# Altium footprint library SignalCommunications.PCBLIB: 466 footprints (part 18 of 30)
Each footprint in its own frame and in the unit in brackets; x right, y up, seen from the top. Pads: shape width x height; smd on the part's side, far side on the other; paste and mask are expansions set on the pad; w line width, h text height; cw(c..) or ccw(c..) is an arc to the next point about the centre after c.
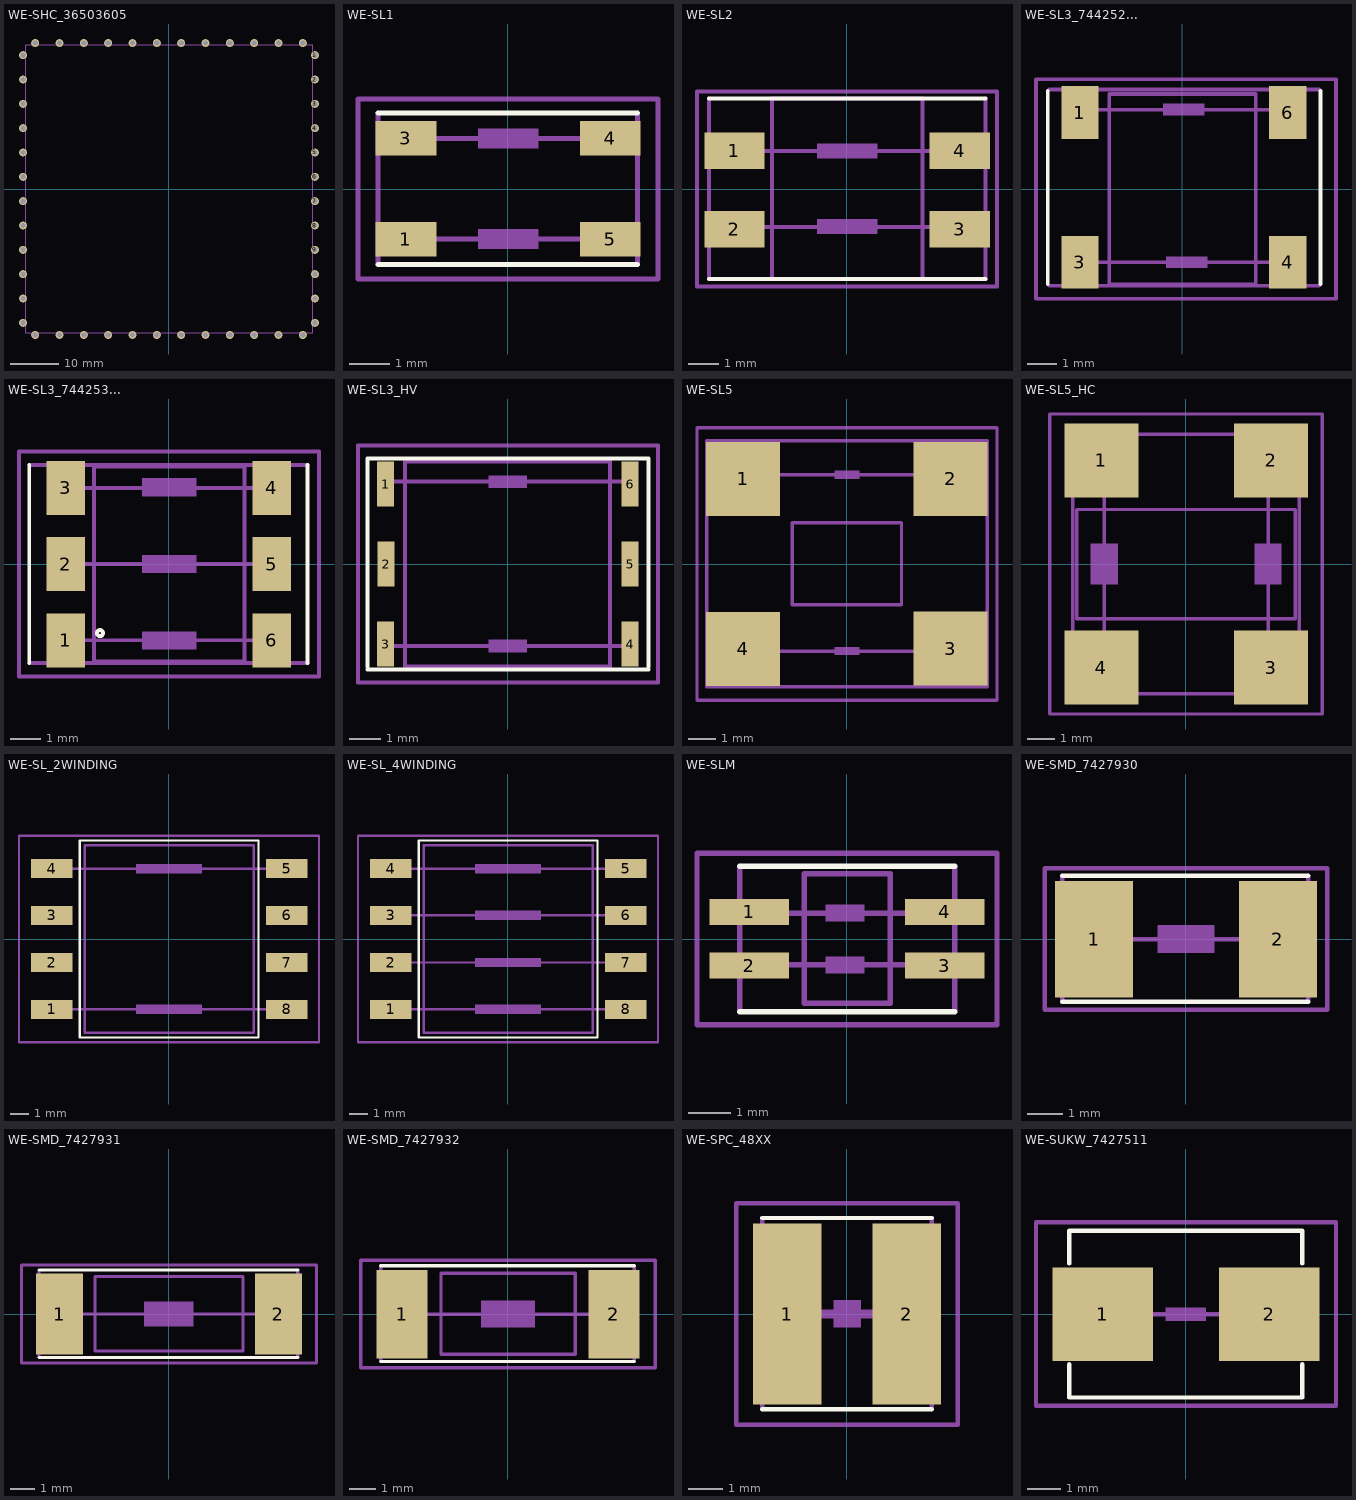
[diagram p17: the footprints below, top view; thin cyan lines are the x and y axes]

## WE-SHC_36503605 [mil]
pads (48):
  round 66 hole 44: 1(1201,1101) 2(1201,901) 3(1201,701) 4(1201,501) 5(1201,301) 6(1201,101) 7(1201,-99.21) 8(1201,-299.21) 9(1201,-499.21) 10(1201,-699.21) 11(1201,-899.21) 12(1201,-1099.21) 13(1101,-1199.21) 14(901,-1199.21) 15(701,-1199.21) 16(501,-1199.21) 17(301,-1199.21) 18(101,-1199.21) 19(-99.21,-1199.21) 20(-299.21,-1199.21) 21(-499.21,-1199.21) 22(-699.21,-1199.21) 23(-899.21,-1199.21) 24(-1099.21,-1199.21) 25(-1199.21,-1099.21) 26(-1199.21,-899.21) 27(-1199.21,-699.21) 28(-1199.21,-499.21) 29(-1199.21,-299.21) 30(-1199.21,-99.21) 31(-1199.21,101) 32(-1199.21,301) 33(-1199.21,501) 34(-1199.21,701) 35(-1199.21,901) 36(-1199.21,1101) 37(-1099.21,1201) 38(-899.21,1201) 39(-699.21,1201) 40(-499.21,1201) 41(-299.21,1201) 42(-99.21,1201) 43(101,1201) 44(301,1201) 45(501,1201) 46(701,1201) 47(901,1201) 48(1101,1201)
Mechanical 16:
  lines w5: -1181.1,-1181.1 -1181.1,1182 1182,1182 1182,-1181.1 -1181.1,-1181.1

## WE-SL1 [mil]
pads (4):
  rect 60x34 smd: 1(-100.39,-49.21) 3(-100.39,50) 4(101,50) 5(101,-49.21)
Top Overlay:
  lines w5: -127.95,-74.02 128,-74.02 ; -127.95,75 128,75
Mechanical 16:
  rectangle: -29.53,40 30,60
  rectangle: -29.53,-59.06 30,-39.37
  lines w5: -127.95,-74.02 -127.95,75 ; -100.39,-49.21 101,-49.21 ; -100.39,50 101,50 ; 128,-74.02 128,75
Mechanical 27:
  lines w5: -147.64,-88.58 148,-88.58 148,89 -147.64,89 -147.64,-88.58

## WE-SL2 [mil]
pads (4):
  rect 79x48 smd: 1(-147.64,50) 2(-147.64,-52.76) 3(148,-52.76) 4(148,50)
Top Overlay:
  lines w5: -181.1,-118.11 182,-118.11 ; -181.1,119 182,119
Mechanical 10:
  lines w5: -98.43,-118.11 -98.43,119 99,119 99,-118.11 -98.43,-118.11
Mechanical 16:
  region: 40,60 -39.37,60 -39.37,40 40,40
  region: 40,-39.37 -39.37,-39.37 -39.37,-59.06 40,-59.06
  lines w5: -181.1,-118.11 -181.1,119 ; -150,-50 150,-50 ; -150,50 150,50 ; 182,-118.11 182,119
Mechanical 27:
  lines w5: -196.85,-127.95 197,-127.95 197,128 -196.85,128 -196.85,-127.95

## WE-SL3_744252... [mil]
pads (4):
  rect 50x71 smd: 1(-137.8,103) 3(-137.8,-98.43) 4(142,-98.43) 6(142,103)
Top Overlay:
  lines w5: -181.1,-127.95 -181.1,132 ; 186,-127.95 186,132
Mechanical 10:
  lines w5: -98.43,-127.95 99,-127.95 99,128 -98.43,128 -98.43,-127.95
Mechanical 16:
  rectangle: -25.59,99 30,115
  rectangle: -21.65,-106.3 34,-90.55
  lines w5: -179.13,-129.92 184,-129.92 ; -179.13,134 184,134 ; -141.73,107 142,107 ; -137.8,-98.43 146,-98.43
Mechanical 27:
  lines w5: -196.85,-147.64 207,-147.64 207,148 -196.85,148 -196.85,-147.64

## WE-SL3_744253... [mil]
pads (6):
  rect 50x71 smd: 1(-135.43,-100) 2(-135.43,0) 3(-135.43,100) 4(135,100) 5(135,0) 6(135,-100)
Top Overlay:
  circle w5: c-90.55,-90.55 r4
  lines w5: -183.46,-129.92 -183.46,130 ; 182,-129.92 182,130
Mechanical 10:
  lines w5: -98.43,-127.95 99,-127.95 99,128 -98.43,128 -98.43,-127.95
Mechanical 16:
  rectangle: -35.43,-11.81 36,12
  rectangle: -35.43,-112.2 36,-88.58
  rectangle: -35.43,89 36,113
  lines w5: -183.46,-129.92 182,-129.92 ; -183.46,130 182,130 ; -135.83,-100 136,-100 ; -135.83,0 136,0 ; -135.43,100 136,100
Mechanical 27:
  lines w5: -196.85,-147.64 197,-147.64 197,148 -196.85,148 -196.85,-147.64

## WE-SL3_HV [mil]
pads (6):
  rect 21x56 smd: 1(-152.56,100) 2(-151.85,0) 3(-152.56,-100) 4(153,-100) 5(153,0) 6(153,100)
Top Overlay:
  lines w5: -175.2,-131.89 176,-131.89 ; -175.2,-127.95 -175.2,130 ; -175.2,132 176,132 ; 176,-127.95 176,130
Mechanical 10:
  lines w5: -127.95,-127.95 128,-127.95 128,128 -127.95,128 -127.95,-127.95
Mechanical 16:
  rectangle: -23.62,-110.24 24,-94.49
  rectangle: -23.62,95 24,111
  lines w5: -149.61,-102.36 -23.62,-102.36 ; -149.61,103 -23.62,103 ; 24,-102.36 150,-102.36 ; 24,103 150,103
Mechanical 27:
  lines w5: -187.01,-147.64 188,-147.64 188,148 -187.01,148 -187.01,-147.64

## WE-SL5 [mil]
pads (4):
  rect 107x107 smd: 1(-150,123) 2(150,123) 3(150,-122.05) 4(-150,-122.44)
Mechanical 10:
  lines w5: -78.74,-59.06 79,-59.06 79,60 -78.74,60 -78.74,-59.06
Mechanical 16:
  rectangle: -17.72,123 18,135
  rectangle: -17.72,-131.5 18,-119.68
  lines w5: -153.15,-125.98 146,-125.98 ; -144.49,129 160,129 ; -202.76,-177.17 -202.76,178 203,178 203,-177.17 -202.76,-177.17
Mechanical 27:
  lines w5: -216.54,-196.85 217,-196.85 217,197 -216.54,197 -216.54,-196.85

## WE-SL5_HC [mil]
pads (4):
  rect 107x107 smd: 1(-122.05,150) 2(123,150) 3(123,-149.61) 4(-122.05,-149.61)
Mechanical 10:
  lines w5: -157.48,-78.74 158,-78.74 158,79 -157.48,79 -157.48,-78.74
Mechanical 16:
  rectangle: -137.8,-29.53 -98.43,30
  rectangle: 99,-29.53 138,30
  lines w5: -118.11,-137.8 -118.11,138 ; 119,-137.8 119,138 ; -163.39,-187.01 164,-187.01 164,188 -163.39,188 -163.39,-187.01
Mechanical 27:
  lines w5: -196.85,-216.54 197,-216.54 197,217 -196.85,217 -196.85,-216.54

## WE-SL_2WINDING [mil]
pads (8):
  rect 87x40 smd: 1(-246.06,-147.64) 2(-246.06,-49.21) 3(-246.06,50) 4(-246.06,148) 5(247,148) 6(247,50) 7(247,-49.21) 8(247,-147.64)
Top Overlay:
  lines w5: -187.01,-206.69 188,-206.69 188,207 -187.01,207 -187.01,-206.69
Mechanical 10:
  lines w5: -177.17,-196.85 178,-196.85 178,197 -177.17,197 -177.17,-196.85
Mechanical 16:
  region: 69,-137.79 -68.9,-137.79 -68.9,-157.48 69,-157.48
  region: 69,158 -68.9,158 -68.9,138 69,138
  lines w5: -246.06,-147.64 247,-147.64 ; -246.06,148 247,148
Mechanical 27:
  lines w5: -314.96,-216.54 315,-216.54 315,217 -314.96,217 -314.96,-216.54

## WE-SL_4WINDING [mil]
pads (8):
  rect 87x40 smd: 1(-246.06,-147.64) 2(-246.06,-49.21) 3(-246.06,50) 4(-246.06,148) 5(247,148) 6(247,50) 7(247,-49.21) 8(247,-147.64)
Top Overlay:
  lines w5: -187.01,-206.69 188,-206.69 188,207 -187.01,207 -187.01,-206.69
Mechanical 10:
  lines w5: -177.17,-196.85 178,-196.85 178,197 -177.17,197 -177.17,-196.85
Mechanical 16:
  region: 69,-137.79 -68.9,-137.79 -68.9,-157.48 69,-157.48
  region: 69,-39.37 -68.9,-39.37 -68.9,-59.06 69,-59.06
  region: 69,60 -68.9,60 -68.9,40 69,40
  region: 69,158 -68.9,158 -68.9,138 69,138
  lines w5: -246.06,-147.64 247,-147.64 ; -246.06,-49.21 247,-49.21 ; -246.06,50 247,50 ; -246.06,148 247,148
Mechanical 27:
  lines w5: -314.96,-216.54 315,-216.54 315,217 -314.96,217 -314.96,-216.54

## WE-SLM [mil]
pads (4):
  rect 73x24 smd: 1(-89.76,25) 2(-89.76,-24.41) 3(90,-24.41) 4(90,25)
Top Overlay:
  lines w5: -98.43,-66.93 99,-66.93 ; -98.43,67 99,67
Mechanical 10:
  lines w5: -39.37,-59.06 40,-59.06 40,60 -39.37,60 -39.37,-59.06
Mechanical 16:
  rectangle: -19.68,16 16,32
  rectangle: -19.68,-31.5 16,-15.74
  lines w5: -98.43,-64.96 -98.43,65 ; -86.61,-23.62 87,-23.62 ; -86.61,24 87,24 ; 99,-64.96 99,65
Mechanical 27:
  lines w5: -137.8,-78.74 138,-78.74 138,79 -137.8,79 -137.8,-78.74

## WE-SMD_7427930 [mil]
pads (2):
  rect 87x130 smd: 1(-102.36,0) 2(103,0)
Top Overlay:
  lines w5: -137.8,-70.28 137,-70.28 ; -137.8,71 137,71
Mechanical 16:
  rectangle: -31.5,-15.75 32,16
  lines w5: -137.8,-70.28 -137.8,71 ; -102.36,0 103,0 ; 137,-70.28 137,71
Mechanical 27:
  lines w5: -157.48,-78.74 158,-78.74 158,79 -157.48,79 -157.48,-78.74

## WE-SMD_7427931 [mil]
pads (2):
  rect 75x130 smd: 1(-175.2,0) 2(176,0)
Top Overlay:
  lines w5: -208.37,-69.46 207,-69.46 ; -208.37,71 207,71
Mechanical 10:
  lines w5: -118.11,-59.06 119,-59.06 119,60 -118.11,60 -118.11,-59.06
Mechanical 16:
  rectangle: -39.37,-19.68 40,20
  lines w5: -208.37,-69.46 -208.37,70 ; -177.17,0 178,0 ; 207,-69.46 207,71
Mechanical 27:
  lines w5: -236.22,-78.74 237,-78.74 237,79 -236.22,79 -236.22,-78.74

## WE-SMD_7427932 [mil]
pads (2):
  rect 75x130 smd: 1(-155.51,0) 2(156,0)
Top Overlay:
  lines w5: -187.25,-69.74 186,-69.74 ; -187.25,71 186,71
Mechanical 10:
  lines w5: -98.43,-59.06 99,-59.06 99,60 -98.43,60 -98.43,-59.06
Mechanical 16:
  rectangle: -39.37,-19.68 40,20
  lines w5: -187.25,-69.74 -187.25,71 ; -157.48,0 158,0 ; 186,-69.74 186,71
Mechanical 27:
  lines w5: -216.54,-78.74 217,-78.74 217,79 -216.54,79 -216.54,-78.74

## WE-SPC_48XX [mil]
pads (2):
  rect 79x209 smd: 1(-68.9,0) 2(69,0)
Top Overlay:
  lines w5: -98,-110.25 98,-110.25 ; -98,111 98,111
Mechanical 16:
  region: 16,-15.75 16,16 -15.75,16 -15.75,-15.75
  lines w5: -98,-110.25 -98,111 ; 98,-110.25 98,111
  lines w10: -68.9,0 69,0
Mechanical 27:
  lines w5: -127.95,-127.95 128,-127.95 128,128 -127.95,128 -127.95,-127.95

## WE-SUKW_7427511 [mil]
pads (2):
  rect 119x111 smd: 1(-98.43,0) 2(99,0)
Top Overlay:
  lines w5: -137.8,-59.06 -137.8,-98.43 138,-98.43 138,-59.06 ; -137.8,60 -137.8,99 138,99 138,60
Mechanical 16:
  rectangle: -23.62,-7.87 24,8
  lines w5: -98.43,0 99,0
Mechanical 27:
  lines w5: -177.17,-108.27 178,-108.27 178,109 -177.17,109 -177.17,-108.27